# EAGLE library part H3LIS200DLTR (library H3LIS200DLTR)
H3LIS200DL Series 3.6 V 400 Hz Low-Power 3-Axis Digital Accelerometer -TFLGA-16L Check availability <https://pricing.snapeda.com/parts/H3LIS200DLTR/STMicroelectronics/view-part?ref=eda>
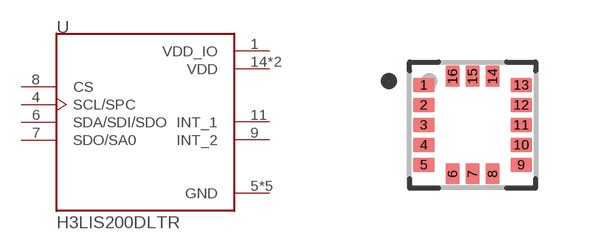
[diagram p0: symbol with the pads of PQFN50P300X300X100-16N; footprint PQFN50P300X300X100-16N]

Designator prefix U

## H3LIS200DLTR (Availability: In Stock; Check_prices: https://www.snapeda.com/parts/H3LIS200DLTR/STMicroelectronics/view-part/?ref=eda; Description: Accelerometer X, Y, Z Axis ±100g, ±200g 25Hz ~ 500Hz 16-TFLGA (3x3); MF: STMicroelectronics; MP: H3LIS200DLTR; Package: TFLGA-16 STMicroelectronics; Price: None; Purchase-URL: https://www.snapeda.com/api/url_track_click_mouser/?unipart_id=523021&manufacturer=STMicroelectronics&part_name=H3LIS200DLTR&search_term=h3lis200dltr; SnapEDA_Link: https://www.snapeda.com/parts/H3LIS200DLTR/STMicroelectronics/view-part/?ref=snap)  [PQFN50P300X300X100-16N]
1  VDD_IO  pwr
4  SCL/SPC  in
5  GND  pwr
6  SDA/SDI/SDO
7  SDO/SA0  out
8  CS  in
9  INT_2  out
10  GND  pwr
11  INT_1  out
12  GND  pwr
13  GND  pwr
14  VDD  pwr
15  VDD  pwr
16  GND  pwr

## Footprint PQFN50P300X300X100-16N (pad centres in mm)
smd 0.53 x 0.35: 1 -1.22,1; 2 -1.22,0.5; 3 -1.22,0; 4 -1.22,-0.5; 5 -1.22,-1; 9 1.22,-1; 10 1.22,-0.5; 11 1.22,0; 12 1.22,0.5; 13 1.22,1
smd 0.35 x 0.53: 6 -0.5,-1.22; 7 0,-1.22; 8 0.5,-1.22; 14 0.5,1.22; 15 0,1.22; 16 -0.5,1.22